# Altium schematic symbol library 3Delight.SCHLIB: 190 symbols (part 1 of 2)
Pins are listed as number, name and electrical type; pins without a type are passive.

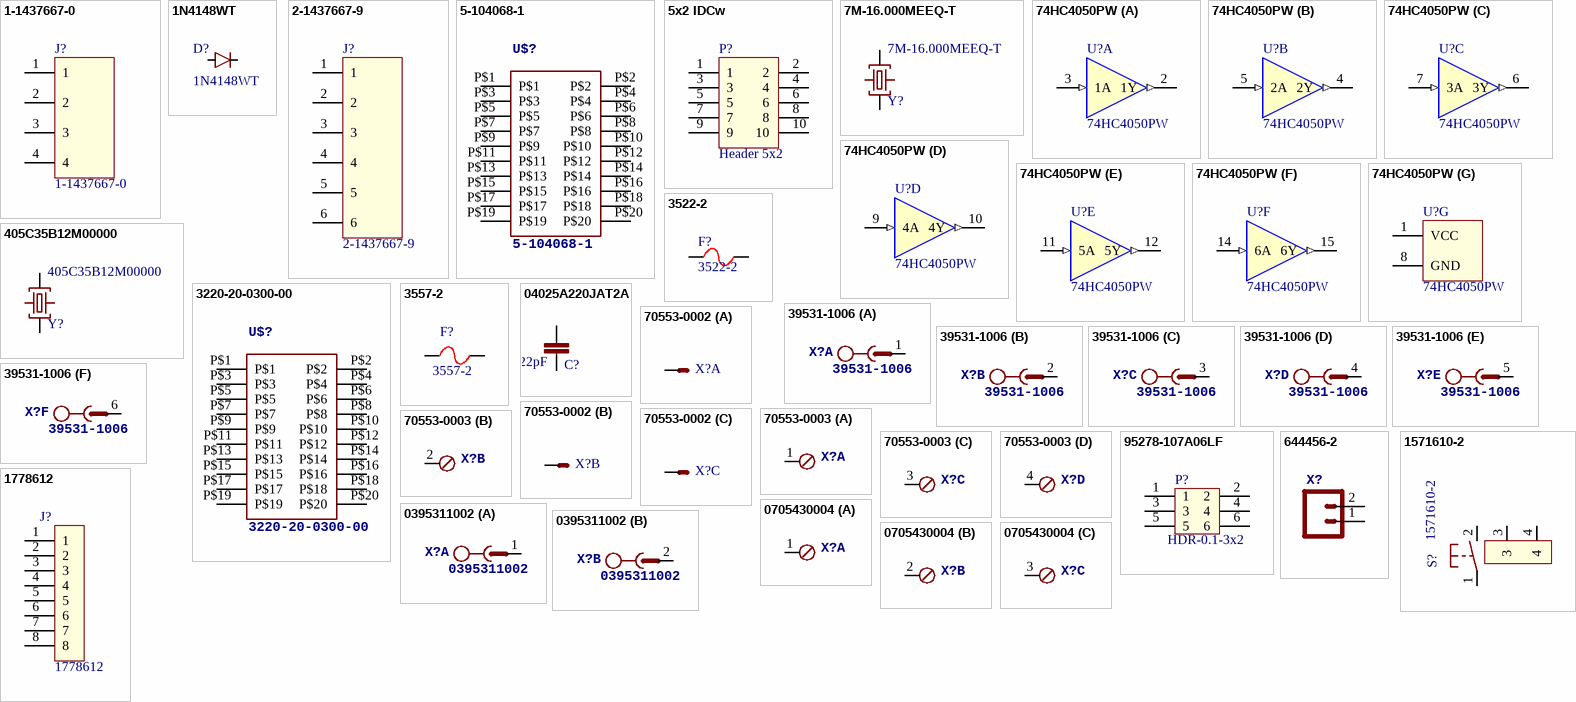
[diagram p0: symbols 1-1437667-0 to 0705430004]

## 1-1437667-0
designator J?
footprint CON-Barrier-4-8.26mm
pins: 1, 2, 3, 4

## 1N4148WT
designator D?
DIODE SOD523; LastRevisionNote: ImportComponents; Published: 23-Apr-2014; Publisher: UltiMachine; LastRevisionDate: 23-Apr-2014; Value: 1N4148WT
footprint SOD523
pins: A, C

## 2-1437667-9
designator J?
footprint CON-Barrier-6-8.26mm
pins: 1, 2, 3, 4, 5, 6

## 5-104068-1
designator U$?
HDR 20pos Vert Dual Row; ManufacturerPartNumber: RSB39VTE-17; LastRevisionNote: ImportComponents; Published: 23-Apr-2014; Publisher: UltiMachine; LastRevisionDate: 23-Apr-2014
footprint 10X2-0.05X0.1
pins: P$1, P$2, P$3, P$4, P$5, P$6, P$7, P$8, P$9, P$10, P$11, P$12, P$13, P$14, P$15, P$16, P$17, P$18, P$19, P$20

## 5x2 IDCw
designator P?, comment Header 5x2
footprint 2x5 IDCw
pins: 1, 2, 3, 4, 5, 6, 7, 8, 9, 10

## 7M-16.000MEEQ-T
designator Y?
Crystal 16mHz 10ppm 10pF; LastRevisionNote: ImportComponents; Published: 23-Apr-2014; Publisher: UltiMachine; LastRevisionDate: 23-Apr-2014; ManufacturerPartNumber: 7M-16.000MEEQ-T
footprint CRYS320250
pins: 1 C1, 2 GND, 3 C2, 4 GND

## 74HC4050PW
designator U?
footprint TSSOP16 (TSOP, 16-Leads, Body 5.00x4.40mm, Pitch 0.65mm, IPC Medium Density)
part A pins: 2 1Y (out), 3 1A (in)
part B pins: 4 2Y (out), 5 2A (in)
part C pins: 6 3Y (out), 7 3A (in)
part D pins: 9 4A (in), 10 4Y (out)
part E pins: 11 5A (in), 12 5Y (out)
part F pins: 14 6A (in), 15 6Y (out)
part G pins: 1 VCC (power), 8 GND (power)

## 405C35B12M00000
designator Y?
Crystal 12MHz ±30ppm (Tol) ±50ppm (Stability) 13pF FUND 50Ohm; LastRevisionNote: ImportComponents; Published: 23-Apr-2014; Publisher: UltiMachine; LastRevisionDate: 23-Apr-2014; ManufacturerPartNumber: 405C35B12M00000
footprint CRYS320500
pins: 1 C1, 2 GND, 3 C2, 4 GND

## 3220-20-0300-00
designator U$?
HDR 20pos Vert Dual Row SMT; ManufacturerPartNumber: RSB39VTE-17; LastRevisionNote: ImportComponents; Published: 23-Apr-2014; Publisher: UltiMachine; LastRevisionDate: 23-Apr-2014
footprint 3220-20-030-00
pins: P$1, P$2, P$3, P$4, P$5, P$6, P$7, P$8, P$9, P$10, P$11, P$12, P$13, P$14, P$15, P$16, P$17, P$18, P$19, P$20

## 3522-2
designator F?
FUSE PTH ATO; LastRevisionNote: ImportComponents; Published: 23-Apr-2014; Publisher: UltiMachine; LastRevisionDate: 23-Apr-2014; ManufacturerPartNumber: 3522-2
footprint 3522-2
pins: 1, 2

## 3557-2
designator F?
FUSE PTH ATO; LastRevisionNote: ImportComponents; Published: 23-Apr-2014; Publisher: UltiMachine; LastRevisionDate: 23-Apr-2014; ManufacturerPartNumber: 3557-2
footprint 3557
pins: 1, 2

## 04025A220JAT2A
designator C?, comment 22pF
CAP CER 0402 22pF 50V 5% C0G; ManufacturerPartNumber: 04025A220JAT2A; LastRevisionNote: ImportComponents; Published: 23-Apr-2014; Publisher: UltiMachine; LastRevisionDate: 23-Apr-2014; VALUE: 22pF
signal-integrity model Model Name (Model Description)
simulation model Model Name (Model Description)
footprint C0402
pins: 1, 2

## 39531-1006
designator X?
Conn - 5.08mm Pitch Fixed; LastRevisionNote: ImportComponents; Published: 23-Apr-2014; Publisher: UltiMachine; LastRevisionDate: 23-Apr-2014; Value: 39531-1006
footprint MSTBV6
part A pins: 1
part B pins: 2 1
part C pins: 3 1
part D pins: 4 1
part E pins: 5 1
part F pins: 6 1

## 70553-0002
designator X?
Connector 3pos 2.54mm locking; LastRevisionNote: ImportComponents; Published: 23-Apr-2014; Publisher: UltiMachine; LastRevisionDate: 23-Apr-2014
footprint 3POL2.54-RtAngle
part A pins: 1 S
part B pins: 2 S
part C pins: 3 S

## 70553-0003
designator X?
4pos latching 2.54mm; LastRevisionNote: ImportComponents; Published: 23-Apr-2014; Publisher: UltiMachine; LastRevisionDate: 23-Apr-2014
footprint 4POL254-RtAngle
part A pins: 1
part B pins: 2 1
part C pins: 3 1
part D pins: 4 1

## 95278-107A06LF
designator P?, comment HDR-0.1-3x2
pins: 1 (power), 2 (power), 3 (power), 4 (power), 5 (power), 6 (power)

## 644456-2
designator X?
Connector 2x1 2.54mm PTH; LastRevisionNote: ImportComponents; Published: 23-Apr-2014; Publisher: UltiMachine; LastRevisionDate: 23-Apr-2014
footprint 644456-2
pins: 1, 2

## 1571610-2
designator S?
SWTCH Momentary Washable; Manufacturer: Omron; Manufacturer: TE; LastRevisionNote: Import; ComponentLink1URL: http://www.te.com/commerce/DocumentDelivery/DDEController?Action=srchrtrv&DocNm=1571610&DocType=Customer+Drawing&DocLang=English; ComponentLink1Description: Datasheet for B3F-31XX; Published: 23-Apr-2014; Publisher: UltiMachine; LastRevisionDate: 23-Apr-2014; ManufacturerPartNumber: 1571610-2; Supplier 1: Mouser; Supplier Part Number 1: 506-1571610-2
footprint B3F-31XX
pins: 1 P, 2 S, 3 (power), 4 (power)

## 1778612
designator J?
Conn 2.5mm Pin in Paste Phoenix
footprint 1778612 (Connector 8 pin 2.5mm Pin in Paste)
pins: 1, 2, 3, 4, 5, 6, 7, 8

## 0395311002
designator X?
Conn - 5.08mm Pitch Fixed; LastRevisionNote: ImportComponents; Published: 23-Apr-2014; Publisher: UltiMachine; LastRevisionDate: 23-Apr-2014; Value: 0395311002
footprint MSTBV2
part A pins: 1
part B pins: 2 1

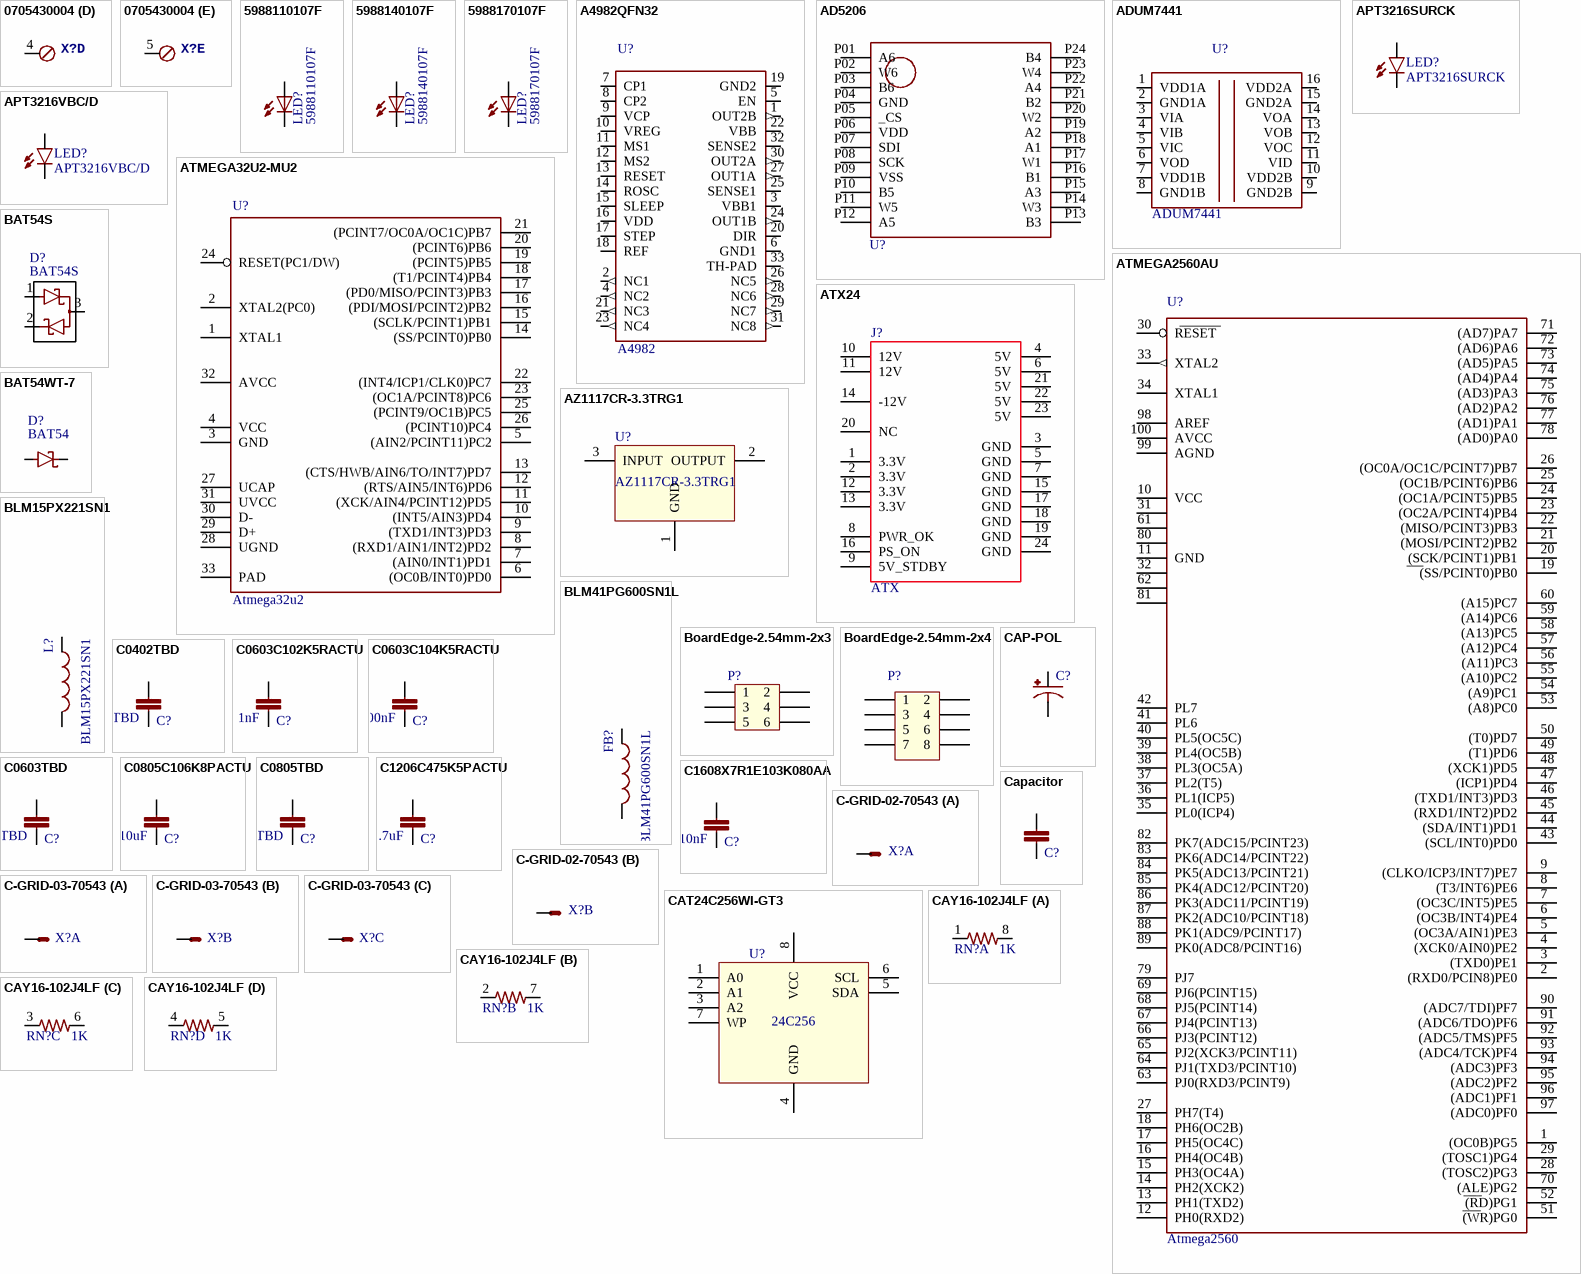
[diagram p1: symbols 0705430004 to CAY16-102J4LF]

## 0705430004
designator X?
5pos Latching 2.54mm; ManufacturerPartNumber: 0705430004; LastRevisionNote: ImportComponents; Published: 23-Apr-2014; Publisher: UltiMachine; LastRevisionDate: 23-Apr-2014
footprint 5POL254
part A pins: 1
part B pins: 2 1
part C pins: 3 1
part D pins: 4 1
part E pins: 5 1

## 5988110107F
designator LED?
LED 0805 Red; LastRevisionNote: ImportComponents; Published: 23-Apr-2014; Publisher: UltiMachine; LastRevisionDate: 23-Apr-2014; VALUE: 5988110107F
footprint LED2012120
pins: A, C

## 5988140107F
designator LED?
LED 0805 Yellow; LastRevisionNote: ImportComponents; Published: 23-Apr-2014; Publisher: UltiMachine; LastRevisionDate: 23-Apr-2014; VALUE: 5988140107F
footprint LED2012120
pins: A, C

## 5988170107F
designator LED?
LED 0805 Green; LastRevisionNote: ImportComponents; Published: 23-Apr-2014; Publisher: UltiMachine; LastRevisionDate: 23-Apr-2014; VALUE: 5988170107F
footprint LED2012120
pins: A, C

## A4982QFN32
designator U?, comment A4982
Stepper Driver - Fully Integrated, Control and Power Stage; Manufacturer: Allegro; ManufacturerPartNumber: A4982SETTR-T; LastRevisionNote: ImportComponents; Published: 23-Apr-2014; Publisher: UltiMachine; LastRevisionDate: 23-Apr-2014; ComponentLink1Description: Datasheet for A4982; ComponentLink1URL: http://www.allegromicro.com/en/Products/Part_Numbers/4982/4982.pdf; Supplier 1: Digi-Key; Supplier Part Number 1: 620-1340-2-ND
footprint QFN32_050050
pins: 1 OUT2B (out), 2 NC1 (out), 3 VBB1 (power), 4 NC2 (out), 5 EN, 6 GND1 (power), 7 CP1, 8 CP2, 9 VCP, 10 VREG, 11 MS1, 12 MS2, 13 RESET, 14 ROSC, 15 SLEEP, 16 VDD (power), 17 STEP, 18 REF, 19 GND2 (power), 20 DIR, 21 NC3 (out), 22 VBB (power), 23 NC4 (out), 24 OUT1B (out), 25 SENSE1, 26 NC5 (out), 27 OUT1A (out), 28 NC6 (out), 29 NC7 (out), 30 OUT2A (out), 31 NC8 (out), 32 SENSE2, 33 TH-PAD (power)

## AD5206
designator U?  (value not drawn)
6ch Digipot; Manufacturer: Analog Devices; ManufacturerPartNumber: AD5206BRUZ10-RL7; LastRevisionNote: ImportComponents; Published: 23-Apr-2014; Publisher: UltiMachine; LastRevisionDate: 23-Apr-2014; ComponentLink1Description: Datasheet for AD5206; ComponentLink1URL: http://www.analog.com/static/imported-files/data_sheets/AD5204_5206.pdf
footprint TSSOP24
pins: P01 A6, P02 W6, P03 B6, P04 GND, P05 _CS, P06 VDD, P07 SDI, P08 SCK, P09 VSS, P10 B5, P11 W5, P12 A5, P13 B3, P14 W3, P15 A3, P16 B1, P17 W1, P18 A1, P19 A2, P20 W2, P21 B2, P22 A4, P23 W4, P24 B4

## ADUM7441
designator U?
4ch iCoupler; LastRevisionNote: ImportComponents; Published: 23-Apr-2014; Publisher: UltiMachine; LastRevisionDate: 23-Apr-2014
footprint QSOP16
pins: 1 VDD1A, 2 GND1A, 3 VIA, 4 VIB, 5 VIC, 6 VOD, 7 VDD1B, 8 GND1B, 9 GND2B, 10 VDD2B, 11 VID, 12 VOC, 13 VOB, 14 VOA, 15 GND2A, 16 VDD2A

## APT3216SURCK
designator LED?
LED RED CLEAR 1206 SMD; LastRevisionNote: ImportComponents; Published: 23-Apr-2014; Publisher: UltiMachine; LastRevisionDate: 23-Apr-2014; VALUE: APT3216SURCK
footprint LED1206
pins: A, C

## APT3216VBC/D
designator LED?
LED BLUE CLEAR 1206 SMD; LastRevisionNote: ImportComponents; Published: 23-Apr-2014; Publisher: UltiMachine; LastRevisionDate: 23-Apr-2014; VALUE: APT3216VBC/D
footprint LED1206
pins: A, C

## ATMEGA32U2-MU2
designator U?, comment Atmega32u2
LastRevisionNote: ImportComponents; Published: 23-Apr-2014; Publisher: UltiMachine; LastRevisionDate: 23-Apr-2014; Supplier 1: Digi-Key; Supplier Part Number 1: ATMEGA32U2-MURTR-ND
footprint QFN32_050050
pins: 1 XTAL1, 2 XTAL2(PC0), 3 GND (power), 4 VCC (power), 5 (AIN2/PCINT11)PC2, 6 (OC0B/INT0)PD0, 7 (AIN0/INT1)PD1, 8 (RXD1/AIN1/INT2)PD2, 9 (TXD1/INT3)PD3, 10 (INT5/AIN3)PD4, 11 (XCK/AIN4/PCINT12)PD5, 12 (RTS/AIN5/INT6)PD6, 13 (CTS/HWB/AIN6/TO/INT7)PD7, 14 (SS/PCINT0)PB0, 15 (SCLK/PCINT1)PB1, 16 (PDI/MOSI/PCINT2)PB2, 17 (PD0/MISO/PCINT3)PB3, 18 (T1/PCINT4)PB4, 19 (PCINT5)PB5, 20 (PCINT6)PB6, 21 (PCINT7/OC0A/OC1C)PB7, 22 (INT4/ICP1/CLK0)PC7, 23 (OC1A/PCINT8)PC6, 24 RESET(PC1/DW), 25 (PCINT9/OC1B)PC5, 26 (PCINT10)PC4, 27 UCAP, 28 UGND (power), 29 D+, 30 D-, 31 UVCC (power), 32 AVCC (power), 33 PAD (power)

## ATMEGA2560AU
designator U?, comment Atmega2560
LastRevisionNote: ImportComponents; Published: 23-Apr-2014; Publisher: UltiMachine; LastRevisionDate: 23-Apr-2014; Supplier 1: Digi-Key; Supplier Part Number 1: ATMEGA2560-16AURTR-ND
footprint TQFP100_140140_012
pins: 1 (OC0B)PG5, 2 (RXD0/PCIN8)PE0, 3 (TXD0)PE1, 4 (XCK0/AIN0)PE2, 5 (OC3A/AIN1)PE3, 6 (OC3B/INT4)PE4, 7 (OC3C/INT5)PE5, 8 (T3/INT6)PE6, 9 (CLKO/ICP3/INT7)PE7, 10 VCC (power), 11 GND (power), 12 PH0(RXD2), 13 PH1(TXD2), 14 PH2(XCK2), 15 PH3(OC4A), 16 PH4(OC4B), 17 PH5(OC4C), 18 PH6(OC2B), 19 (SS/PCINT0)PB0, 20 (SCK/PCINT1)PB1, 21 (MOSI/PCINT2)PB2, 22 (MISO/PCINT3)PB3, 23 (OC2A/PCINT4)PB4, 24 (OC1A/PCINT5)PB5, 25 (OC1B/PCINT6)PB6, 26 (OC0A/OC1C/PCINT7)PB7, 27 PH7(T4), 28 (TOSC2)PG3, 29 (TOSC1)PG4, 30 RESET, 31 VCC1 (power), 32 GND1 (power), 33 XTAL2 (out), 34 XTAL1, 35 PL0(ICP4), 36 PL1(ICP5), 37 PL2(T5), 38 PL3(OC5A), 39 PL4(OC5B), 40 PL5(OC5C), 41 PL6, 42 PL7, 43 (SCL/INT0)PD0, 44 (SDA/INT1)PD1, 45 (RXD1/INT2)PD2, 46 (TXD1/INT3)PD3, 47 (ICP1)PD4, 48 (XCK1)PD5, 49 (T1)PD6, 50 (T0)PD7, 51 (WR)PG0, 52 (RD)PG1, 53 (A8)PC0, 54 (A9)PC1, 55 (A10)PC2, 56 (A11)PC3, 57 (A12)PC4, 58 (A13)PC5, 59 (A14)PC6, 60 (A15)PC7, 61 VCC2 (power), 62 GND2 (power), 63 PJ0(RXD3/PCINT9), 64 PJ1(TXD3/PCINT10), 65 PJ2(XCK3/PCINT11), 66 PJ3(PCINT12), 67 PJ4(PCINT13), 68 PJ5(PCINT14), 69 PJ6(PCINT15), 70 (ALE)PG2, 71 (AD7)PA7, 72 (AD6)PA6, 73 (AD5)PA5, 74 (AD4)PA4, 75 (AD3)PA3, 76 (AD2)PA2, 77 (AD1)PA1, 78 (AD0)PA0, 79 PJ7, 80 VCC3 (power), 81 GND3 (power), 82 PK7(ADC15/PCINT23), 83 PK6(ADC14/PCINT22), 84 PK5(ADC13/PCINT21), 85 PK4(ADC12/PCINT20), 86 PK3(ADC11/PCINT19), 87 PK2(ADC10/PCINT18), 88 PK1(ADC9/PCINT17), 89 PK0(ADC8/PCINT16), 90 (ADC7/TDI)PF7, 91 (ADC6/TDO)PF6, 92 (ADC5/TMS)PF5, 93 (ADC4/TCK)PF4, 94 (ADC3)PF3, 95 (ADC2)PF2, 96 (ADC1)PF1, 97 (ADC0)PF0, 98 AREF, 99 AGND (power), 100 AVCC (power)

## ATX24
designator J?, comment ATX
footprint LTST-C19HE1WT (LED RGB DIFFUSED 0606 SMD)
pins: 1 3.3V (power), 2 3.3V (power), 3 GND (power), 4 5V (power), 5 GND (power), 6 5V (power), 7 GND (power), 8 PWR_OK (power), 9 5V_STDBY (power), 10 12V (power), 11 12V (power), 12 3.3V (power), 13 3.3V (power), 14 -12V (power), 15 GND (power), 16 PS_ON (power), 17 GND (power), 18 GND (power), 19 GND (power), 20 NC (power), 21 5V (power), 22 5V (power), 23 5V (power), 24 GND (power)

## AZ1117CR-3.3TRG1
designator U?
IC REG LDO 3.3V 0.8A SOT89
footprint SOT89-150P347X160-3L (SOT89, 3-Leads, Body 4.50x2.48mm, Pitch 1.50mm, Lead Span 3.5mm, IPC High Density)
pins: 1 GND (power), 2 OUTPUT (power), 3 INPUT (power)

## BAT54S
designator D?
DIODE SCHOTTKY SOT323; Manufacturer: Fairchild; ManufacturerPartNumber: BAT54SWT1G; LastRevisionNote: ImportComponents; Published: 23-Apr-2014; Publisher: UltiMachine; LastRevisionDate: 23-Apr-2014; Value: BAT54S
footprint SOT323
pins: 1, 2, 3

## BAT54WT-7
designator D?, comment BAT54
Diode Schottky 30V 100mA Surface Mount SOD-523; Manufacturer: Diodes Incorporated; ManufacturerPartNumber: BAT54WT-7; LastRevisionNote: ImportComponents; Published: 23-Apr-2014; Publisher: UltiMachine; LastRevisionDate: 23-Apr-2014; Value: BAT54
footprint SOD523_
pins: A, K

## BLM15PX221SN1
designator L?
FERRITE BEAD 220 OHM 0402; ManufacturerPartNumber: BLM41PG600SN1L; LastRevisionNote: ImportComponents; Published: 23-Apr-2014; Publisher: UltiMachine; LastRevisionDate: 23-Apr-2014
footprint C0402
pins: 1, 2

## BLM41PG600SN1L
designator FB?
FERRITE BEAD 1806 60ohm; LastRevisionNote: ImportComponents; Published: 23-Apr-2014; Publisher: UltiMachine; LastRevisionDate: 23-Apr-2014; ManufacturerPartNumber: BLM41PG600SN1L
footprint L1806 (Chip Inductor, 2-Leads, Body 4.50x1.60mm, IPC Medium Density)
pins: 1, 2

## BoardEdge-2.54mm-2x3
designator P?  (value not drawn)
footprint BoardEdge-2.54mm-2x3
pins: 1 (power), 2 (power), 3 (power), 4 (power), 5 (power), 6 (power)

## BoardEdge-2.54mm-2x4
designator P?  (value not drawn)
footprint BoardEdge-2.54mm-2x4
pins: 1 (power), 2 (power), 3 (power), 4 (power), 5 (power), 6 (power), 7 (power), 8 (power)

## C0402TBD
designator C?
Capacitor Non Polarized; LastRevisionNote: ImportComponents; Published: 23-Apr-2014; Publisher: UltiMachine; LastRevisionDate: 23-Apr-2014; VALUE: C0402TBD
footprint C0402
signal-integrity model Model Name (Model Description)
simulation model Model Name (Model Description)
pins: 1, 2

## C0603C102K5RACTU
designator C?, comment 1nF
CAP CER 0603  1nF 50v 10% X7R; ManufacturerPartNumber: C0603C102K5RACTU; LastRevisionNote: ImportComponents; Published: 23-Apr-2014; Publisher: UltiMachine; LastRevisionDate: 23-Apr-2014; VALUE: 1nF
footprint C0603
signal-integrity model Model Name (Model Description)
simulation model Model Name (Model Description)
pins: 1, 2

## C0603C104K5RACTU
designator C?, comment 100nF
CAP CER 0603 100nF 50V 10% X7R; ManufacturerPartNumber: C0603C104K5RACTU; LastRevisionNote: ImportComponents; Published: 23-Apr-2014; Publisher: UltiMachine; LastRevisionDate: 23-Apr-2014; VALUE: 100nF
footprint C0603
signal-integrity model Model Name (Model Description)
simulation model Model Name (Model Description)
pins: 1, 2

## C0603TBD
designator C?
Capacitor Non Polarized; LastRevisionNote: ImportComponents; Published: 23-Apr-2014; Publisher: UltiMachine; LastRevisionDate: 23-Apr-2014; VALUE: C0603TBD
footprint C0603
signal-integrity model Model Name (Model Description)
simulation model Model Name (Model Description)
pins: 1, 2

## C0805C106K8PACTU
designator C?, comment 10uF
CAP CER 0805 10uF 10V 10% X5R; ManufacturerPartNumber: C0805C106K8PACTU; LastRevisionNote: ImportComponents; Published: 23-Apr-2014; Publisher: UltiMachine; LastRevisionDate: 23-Apr-2014; VALUE: 10uF
footprint C0805
signal-integrity model Model Name (Model Description)
simulation model Model Name (Model Description)
pins: 1, 2

## C0805TBD
designator C?
Capacitor Non Polarized; LastRevisionNote: ImportComponents; Published: 23-Apr-2014; Publisher: UltiMachine; LastRevisionDate: 23-Apr-2014; VALUE: C0805TBD
footprint C0805
signal-integrity model Model Name (Model Description)
simulation model Model Name (Model Description)
pins: 1, 2

## C1206C475K5PACTU
designator C?, comment 4.7uF
CAP CER 1206 4.7uF 50V 10% X5R; ManufacturerPartNumber: C1206C475K5PACTU; LastRevisionNote: ImportComponents; Published: 23-Apr-2014; Publisher: UltiMachine; LastRevisionDate: 23-Apr-2014; VALUE: 4.7uF
signal-integrity model Model Name (Model Description)
simulation model Model Name (Model Description)
footprint C1206
pins: 1, 2

## C1608X7R1E103K080AA
designator C?, comment 10nF
CAP CER 0603 10nF 25V 10% X7R; ManufacturerPartNumber: C1608X7R1E103K080AA; LastRevisionNote: ImportComponents; Published: 23-Apr-2014; Publisher: UltiMachine; LastRevisionDate: 23-Apr-2014; VALUE: 10nF
footprint C0603
signal-integrity model Model Name (Model Description)
simulation model Model Name (Model Description)
pins: 1, 2

## C-GRID-02-70543
designator X?
Connector 2pos; LastRevisionNote: ImportComponents; Published: 23-Apr-2014; Publisher: UltiMachine; LastRevisionDate: 23-Apr-2014
footprint 70543-02
part A pins: 1 S
part B pins: 2 S

## C-GRID-03-70543
designator X?
Connector 2pos 2.54mm locking; LastRevisionNote: ImportComponents; Published: 23-Apr-2014; Publisher: UltiMachine; LastRevisionDate: 23-Apr-2014
footprint 70543-03
part A pins: 1 S
part B pins: 2 S
part C pins: 3 S

## CAP-POL
designator C?
Capacitor Polarized; LastRevisionNote: ImportComponents; Published: 23-Apr-2014; Publisher: UltiMachine; LastRevisionDate: 23-Apr-2014
footprint E3,5-8 (Footprint not found)
footprint C1206Tantalum (Chip Capacitor, 2-Leads, Body 3.20x1.60mm, IPC Medium Density)
footprint C12,5-5
pins: 1 +, 2 -

## Capacitor
designator C?
Capacitor Non Polarized; LastRevisionNote: ImportComponents; Published: 23-Apr-2014; Publisher: UltiMachine; LastRevisionDate: 23-Apr-2014
footprint C0402
footprint C0603
footprint C0805
footprint C1210K
signal-integrity model Model Name (Model Description)
simulation model Model Name (Model Description)
footprint C2220K
footprint C1206
pins: 1, 2

## CAT24C256WI-GT3
designator U?, comment 24C256
footprint SO8 (plastic small outline package; 8 leads; body width 3.9 mm)
pins: 1 A0 (power), 2 A1 (power), 3 A2 (power), 4 GND (power), 5 SDA (power), 6 SCL (power), 7 WP (power), 8 VCC (power)

## CAY16-102J4LF
designator RN?, comment 1K
RES ARRAY 4 RES 1K 1206 62.5mW 5%; Manufacturer: Bourns; ManufacturerPartNumber: CAY16-102J4LF; LastRevisionNote: ImportComponents; ComponentLink1URL: http://www.bourns.com/data/global/pdfs/CATCAY.pdf; ComponentLink1Description: Datasheet for CAY16; Published: 23-Apr-2014; Publisher: UltiMachine; LastRevisionDate: 23-Apr-2014; VALUE: 1K
footprint CAY16
part A pins: 1, 8 2
part B pins: 2 1, 7 2
part C pins: 3 1, 6 2
part D pins: 4 1, 5 2

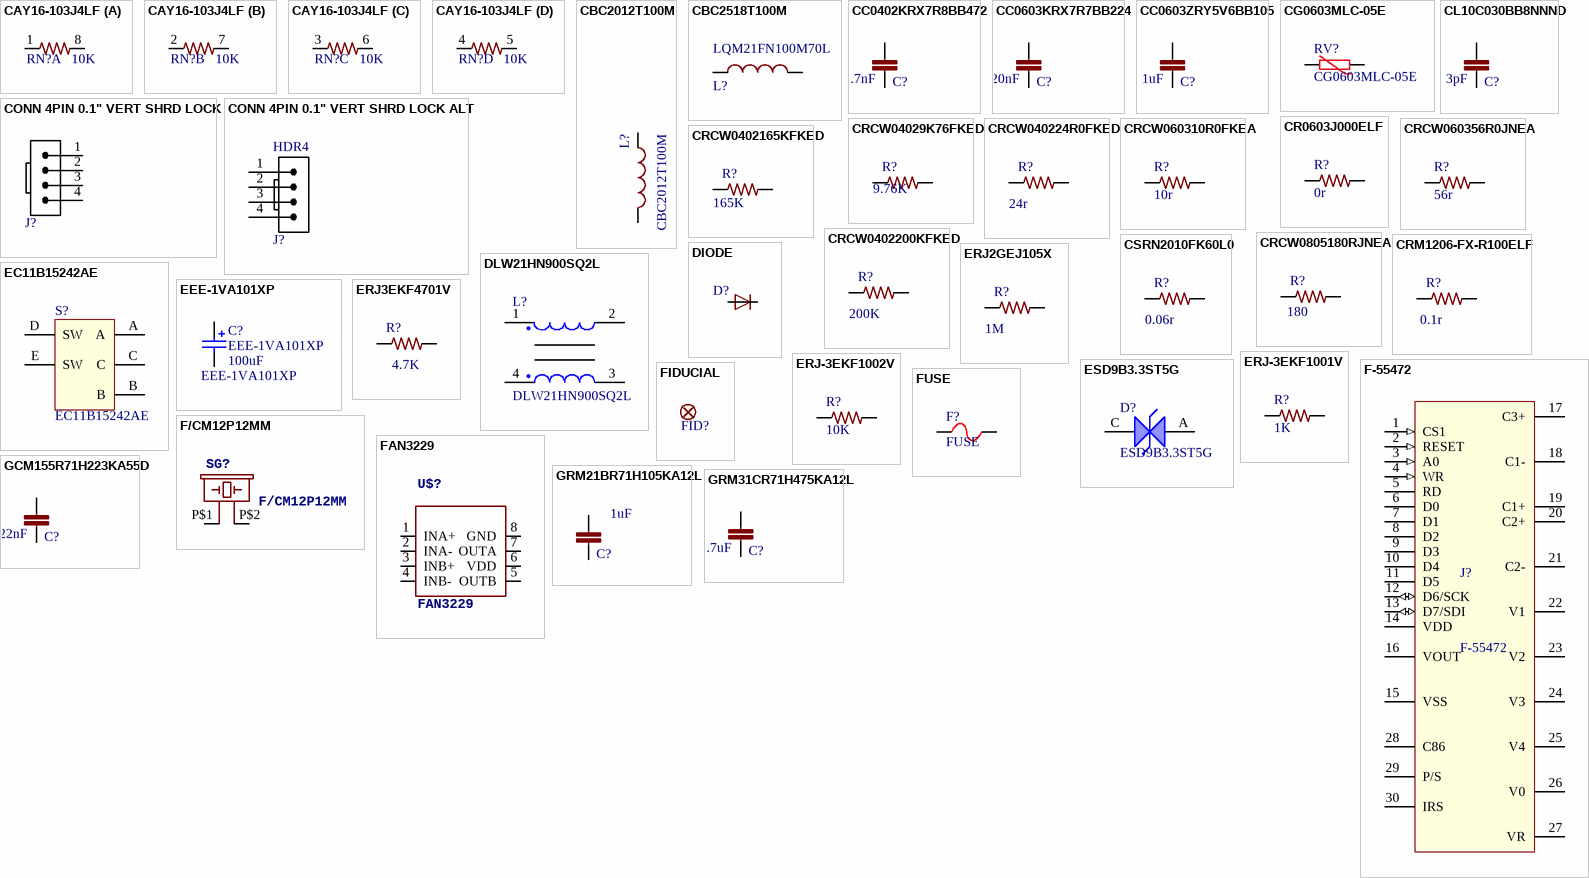
[diagram p2: symbols CAY16-103J4LF to GRM31CR71H475KA12L]

## CAY16-103J4LF
designator RN?, comment 10K
RES ARRAY 4 RES 10K 1206 62.5mW 5%; Manufacturer: Bourns; ManufacturerPartNumber: CAY16-103J4LF; LastRevisionNote: ImportComponents; ComponentLink1URL: http://www.bourns.com/data/global/pdfs/CATCAY.pdf; ComponentLink1Description: Datasheet for CAY16; Published: 23-Apr-2014; Publisher: UltiMachine; LastRevisionDate: 23-Apr-2014; VALUE: 10K
footprint CAY16
part A pins: 1, 8 2
part B pins: 2 1, 7 2
part C pins: 3 1, 6 2
part D pins: 4 1, 5 2

## CBC2012T100M
designator L?
IND 0805 10uH 240mA 20%; LastRevisionNote: ImportComponents; Published: 23-Apr-2014; Publisher: UltiMachine; LastRevisionDate: 23-Apr-2014; ManufacturerPartNumber: CBC2012T100M; Value: CBC2012T100M
footprint C0805
pins: 1, 2

## CBC2518T100M
designator L?, comment LQM21FN100M70L
IND 10UH 680MA 468 MOHM ±20%; ManufacturerPartNumber: CBC2012T100M; LastRevisionNote: ImportComponents; Published: 23-Apr-2014; Publisher: UltiMachine; LastRevisionDate: 23-Apr-2014; Value: LQM21FN100M70L
footprint C0805
pins: 1, 2

## CC0402KRX7R8BB472
designator C?, comment 4.7nF
CAP CER 0402 4.7nF 25V 10% X7R; ManufacturerPartNumber: CC0402KRX7R8BB472; LastRevisionNote: ImportComponents; Published: 23-Apr-2014; Publisher: UltiMachine; LastRevisionDate: 23-Apr-2014; VALUE: 4.7nF
footprint C0402
signal-integrity model Model Name (Model Description)
simulation model Model Name (Model Description)
pins: 1, 2

## CC0603KRX7R7BB224
designator C?, comment 220nF
CAP CER 0603 220nF 10V 10% X7R; ManufacturerPartNumber: CC0603KRX7R7BB224; LastRevisionNote: ImportComponents; Published: 23-Apr-2014; Publisher: UltiMachine; LastRevisionDate: 23-Apr-2014; VALUE: 220nF
footprint C0603
signal-integrity model Model Name (Model Description)
simulation model Model Name (Model Description)
pins: 1, 2

## CC0603ZRY5V6BB105
designator C?, comment 1uF
CAP CER 0603 1uF 10V Y5V; ManufacturerPartNumber: CC0603ZRY5V6BB105; LastRevisionNote: ImportComponents; Published: 23-Apr-2014; Publisher: UltiMachine; LastRevisionDate: 23-Apr-2014; VALUE: 1uF
footprint C0603
signal-integrity model Model Name (Model Description)
simulation model Model Name (Model Description)
pins: 1, 2

## CG0603MLC-05E
designator RV?
VAR 0603 5V; LastRevisionNote: ImportComponents; Published: 23-Apr-2014; Publisher: UltiMachine; LastRevisionDate: 23-Apr-2014; ManufacturerPartNumber: CG0603MLC-05E
footprint R0603
signal-integrity model Model Name (Model Description)
simulation model Model Name (Model Description)
pins: 1, 2

## CL10C030BB8NNND
designator C?, comment 3pF
CAP CER 3PF 50V NP0 0603; ManufacturerPartNumber: CL10C030BB8NNND; LastRevisionNote: ImportComponents; Published: 23-Apr-2014; Publisher: UltiMachine; LastRevisionDate: 23-Apr-2014; VALUE: 3pF
footprint C0603
signal-integrity model Model Name (Model Description)
simulation model Model Name (Model Description)
pins: 1, 2

## CONN 4PIN 0.1" VERT SHRD LOCK
designator J?, comment Molex 0705430003  (value not drawn)
Molex 4 Pin Clip Connector; MANUFACTURER #: 0705430038; PART: 4 Pin Conn; PART DESCRIPTION: 4 Positions Header, Shrouded Connector 0.100" (2.54mm) Through Hole Tin; TOLERANCE: -NA-; VALUE: HDR4; MANUFACTURER: Molex; DISTRIBUTOR #: WM4826-ND; DISTRIBUTOR: Digikey; EE_SPEC: -NA-
footprint 4POL254
pins: 1, 2, 3, 4

## CONN 4PIN 0.1" VERT SHRD LOCK ALT
designator J?, comment value HDR4  (hidden comment: Molex 0705430003)
Molex 4 Pin Clip Connector; MANUFACTURER #: 0705430038; PART: 4 Pin Conn; PART DESCRIPTION: 4 Positions Header, Shrouded Connector 0.100" (2.54mm) Through Hole Tin; TOLERANCE: -NA-; MANUFACTURER: Molex; DISTRIBUTOR #: WM4826-ND; DISTRIBUTOR: Digikey; EE_SPEC: -NA-
footprint 4POL254
pins: 1, 2, 3, 4

## CR0603J000ELF
designator R?, comment 0r
RES 0603 0r 100mW 1%; ManufacturerPartNumber: CR0603J000ELF; LastRevisionNote: ImportComponents; Published: 23-Apr-2014; Publisher: UltiMachine; LastRevisionDate: 23-Apr-2014; VALUE: 0r
footprint R0603
signal-integrity model Model Name (Model Description)
simulation model Model Name (Model Description)
pins: 1, 2

## CRCW04029K76FKED
designator R?, comment 9.76K
RES 0402 9.76K 63mW 1%; ManufacturerPartNumber: CRCW04029K76FKED; LastRevisionNote: ImportComponents; Published: 23-Apr-2014; Publisher: UltiMachine; LastRevisionDate: 23-Apr-2014; VALUE: 9.76K
footprint R0402
signal-integrity model Model Name (Model Description)
simulation model Model Name (Model Description)
pins: 1, 2

## CRCW040224R0FKED
designator R?, comment 24r
Res Thick Film 0402 24 Ohm 1% 0.063W; ManufacturerPartNumber: CRCW0402200KFKED; LastRevisionNote: ImportComponents; Published: 23-Apr-2014; Publisher: UltiMachine; LastRevisionDate: 23-Apr-2014; VALUE: 24r
footprint R0402
signal-integrity model Model Name (Model Description)
simulation model Model Name (Model Description)
pins: 1, 2

## CRCW060310R0FKEA
designator R?, comment 10r
RES 0603 10r 100mW 1%; ManufacturerPartNumber: CRCW060310R0FKEA; LastRevisionNote: ImportComponents; Published: 23-Apr-2014; Publisher: UltiMachine; LastRevisionDate: 23-Apr-2014; VALUE: 10r
footprint R0603
signal-integrity model Model Name (Model Description)
simulation model Model Name (Model Description)
pins: 1, 2

## CRCW060356R0JNEA
designator R?, comment 56r
RES 0603 56r 100mW 5%; ManufacturerPartNumber: CRCW060356R0JNEA; LastRevisionNote: ImportComponents; Published: 23-Apr-2014; Publisher: UltiMachine; LastRevisionDate: 23-Apr-2014; VALUE: 56r
footprint R0603
signal-integrity model Model Name (Model Description)
simulation model Model Name (Model Description)
pins: 1, 2

## CRCW0402165KFKED
designator R?, comment 165K
RES 165K OHM 1% 1/16W 0402; LastRevisionNote: ImportComponents; Published: 23-Apr-2014; Publisher: UltiMachine; LastRevisionDate: 23-Apr-2014; VALUE: 165K
footprint R0402
signal-integrity model Model Name (Model Description)
simulation model Model Name (Model Description)
pins: 1, 2

## CRCW0402200KFKED
designator R?, comment 200K
RES 0402 200K; ManufacturerPartNumber: CRCW0402200KFKED; LastRevisionNote: ImportComponents; Published: 23-Apr-2014; Publisher: UltiMachine; LastRevisionDate: 23-Apr-2014; VALUE: 200K
footprint R0402
signal-integrity model Model Name (Model Description)
simulation model Model Name (Model Description)
pins: 1, 2

## CRCW0805180RJNEA
designator R?, comment 180
Resistor; LastRevisionNote: ImportComponents; Published: 23-Apr-2014; Publisher: UltiMachine; LastRevisionDate: 23-Apr-2014; VALUE: 180
signal-integrity model Model Name (Model Description)
simulation model Model Name (Model Description)
footprint R0805
pins: 1, 2

## CRM1206-FX-R100ELF
designator R?, comment 0.1r
RES 1206 0.1r 0.5w 1%; ManufacturerPartNumber: CRM1206-FX-R100ELF; LastRevisionNote: ImportComponents; Published: 23-Apr-2014; Publisher: UltiMachine; LastRevisionDate: 23-Apr-2014; VALUE: 0.1r
footprint R1206
signal-integrity model Model Name (Model Description)
simulation model Model Name (Model Description)
pins: 1, 2

## CSRN2010FK60L0
designator R?, comment 0.06r
RES 2010 0.06r 1W 1%; ManufacturerPartNumber: CSRN2010FK60L0; LastRevisionNote: ImportComponents; Published: 23-Apr-2014; Publisher: UltiMachine; LastRevisionDate: 23-Apr-2014; VALUE: 0.06r
signal-integrity model Model Name (Model Description)
simulation model Model Name (Model Description)
footprint RN2010
pins: 1, 2

## DIODE
designator D?
DIODE; LastRevisionNote: ImportComponents; Published: 23-Apr-2014; Publisher: UltiMachine; LastRevisionDate: 23-Apr-2014
footprint DO-214AB
footprint SOD523
pins: A, C

## DLW21HN900SQ2L
designator L?
Common Mode Chokes Dual 90Ohm 100MHz 330mA 350mOhm DCR SMD
footprint DLW21HN900SQ2L
pins: 1 (power), 2 (power), 3 (power), 4 (power)

## EC11B15242AE
designator S?
SWITCH Rotary encoder w/ switch
footprint EC11B15242AE
footprint EC11+PEC09
pins: A (power), B (power), C (power), D SW (power), E SW (power)

## EEE-1VA101XP
designator C?  value 100uF
CAP ALUM 100UF 35V 20% SMD; Manufacture: Panasonic; Digikey Part #: PCE3951CT-ND; Price: $0.63; Mount Type: SMT Panasonic VS D Series; Status: Active; Height: 7.70mm; Datasheet: http://industrial.panasonic.com/www-cgi/jvcr13pz.cgi?E+PZ+3+ABA0002+EEE1VA101XP+7+WW; Manufacture Part #: EEE-1VA101XP
simulation model CAP (Capacitor)
signal-integrity model Cap Pol
footprint CAP-ELEC-063063077 (6.3x6.3x7.7mm)
pins: 1, 2
1 alternate drawing of the same symbol

## ERJ2GEJ105X
designator R?, comment 1M
RES 0402 1M 100mW 5%; ManufacturerPartNumber: ERJ2GEJ105X; LastRevisionNote: ImportComponents; Published: 23-Apr-2014; Publisher: UltiMachine; LastRevisionDate: 23-Apr-2014; VALUE: 1M
footprint R0402
signal-integrity model Model Name (Model Description)
simulation model Model Name (Model Description)
pins: 1, 2

## ERJ3EKF4701V
designator R?, comment 4.7K
RES 0603 4.7K 100mW 1%; ManufacturerPartNumber: ERJ3EKF4701V; LastRevisionNote: ImportComponents; Published: 23-Apr-2014; Publisher: UltiMachine; LastRevisionDate: 23-Apr-2014; VALUE: 4.7K
footprint R0603
signal-integrity model Model Name (Model Description)
simulation model Model Name (Model Description)
pins: 1, 2

## ERJ-3EKF1001V
designator R?, comment 1K
RES 0603 1K 100mW 1%; ManufacturerPartNumber: ERJ-3EKF1001V; LastRevisionNote: ImportComponents; Published: 23-Apr-2014; Publisher: UltiMachine; LastRevisionDate: 23-Apr-2014; VALUE: 1K
footprint R0603
signal-integrity model Model Name (Model Description)
simulation model Model Name (Model Description)
pins: 1, 2

## ERJ-3EKF1002V
designator R?, comment 10K
RES 0603 10K 100mW 1%; ManufacturerPartNumber: ERJ-3EKF1002V; LastRevisionNote: ImportComponents; Published: 23-Apr-2014; Publisher: UltiMachine; LastRevisionDate: 23-Apr-2014; VALUE: 10K
footprint R0603
signal-integrity model Model Name (Model Description)
simulation model Model Name (Model Description)
pins: 1, 2

## ESD9B3.3ST5G
designator D?
11.5 V 15 pF SMT Transient Voltage Suppressor - SOD-923
footprint SOD923-100X40-2N (SODFL, 2-Leads, Body 0.60x1.00mm, IPC Medium Density)
pins: A (power), C (power)

## F-55472
designator J?
footprint 10051922-3010ELF
pins: 1 CS1 (in), 2 RESET (in), 3 A0 (in), 4 WR (in), 5 RD (power), 6 D0 (power), 7 D1 (power), 8 D2 (power), 9 D3 (power), 10 D4 (power), 11 D5 (power), 12 D6/SCK (io), 13 D7/SDI (io), 14 VDD (power), 15 VSS (power), 16 VOUT (power), 17 C3+ (power), 18 C1- (power), 19 C1+ (power), 20 C2+ (power), 21 C2- (power), 22 V1 (power), 23 V2 (power), 24 V3 (power), 25 V4 (power), 26 V0 (power), 27 VR (power), 28 C86 (power), 29 P/S (power), 30 IRS (power)

## F/CM12P12MM
designator SG?
BUZZER; LastRevisionNote: ImportComponents; Published: 23-Apr-2014; Publisher: UltiMachine; LastRevisionDate: 23-Apr-2014
footprint BUZZER-12MM
pins: P$1 1, P$2 2

## FAN3229
designator U$?
LastRevisionNote: ImportComponents; Published: 23-Apr-2014; Publisher: UltiMachine; LastRevisionDate: 23-Apr-2014
footprint SOIC8
pins: 1 INA+, 2 INA-, 3 INB+, 4 INB-, 5 OUTB, 6 VDD, 7 OUTA, 8 GND

## FIDUCIAL
designator FID?
Fiducial; LastRevisionNote: ImportComponents; Published: 23-Apr-2014; Publisher: UltiMachine; LastRevisionDate: 23-Apr-2014
footprint FIDUCIAL-1X2
footprint FIDUCIAL-2x3-Panel

## FUSE
designator F?
LastRevisionNote: ImportComponents; Published: 23-Apr-2014; Publisher: UltiMachine; LastRevisionDate: 23-Apr-2014
footprint 3522-2
footprint F1210_M (Bournes PTC Fuse)
pins: 1, 2

## GCM155R71H223KA55D
designator C?, comment 22nF
CAP CER 0402 22nF ±10% 50V X7R; ManufacturerPartNumber: CC0402KRX7R8BB472; LastRevisionNote: ImportComponents; Published: 23-Apr-2014; Publisher: UltiMachine; LastRevisionDate: 23-Apr-2014; VALUE: 22nF
footprint C0402
signal-integrity model Model Name (Model Description)
simulation model Model Name (Model Description)
pins: 1, 2

## GRM21BR71H105KA12L
designator C?, comment 1uF
CAP CER 0805 1uF 50V 10% X7R; ManufacturerPartNumber: GRM21BR71H105KA12L; LastRevisionNote: ImportComponents; Published: 23-Apr-2014; Publisher: UltiMachine; LastRevisionDate: 23-Apr-2014; VALUE: 1uF
footprint C0805
signal-integrity model Model Name (Model Description)
simulation model Model Name (Model Description)
pins: 1, 2

## GRM31CR71H475KA12L
designator C?, comment 4.7uF
CAP CER 1206 4.7uF 50V 10% X7R; ManufacturerPartNumber: GRM31CR71H475KA12L; LastRevisionNote: ImportComponents; Published: 23-Apr-2014; Publisher: UltiMachine; LastRevisionDate: 23-Apr-2014; VALUE: 4.7uF
signal-integrity model Model Name (Model Description)
simulation model Model Name (Model Description)
footprint C1206
pins: 1, 2

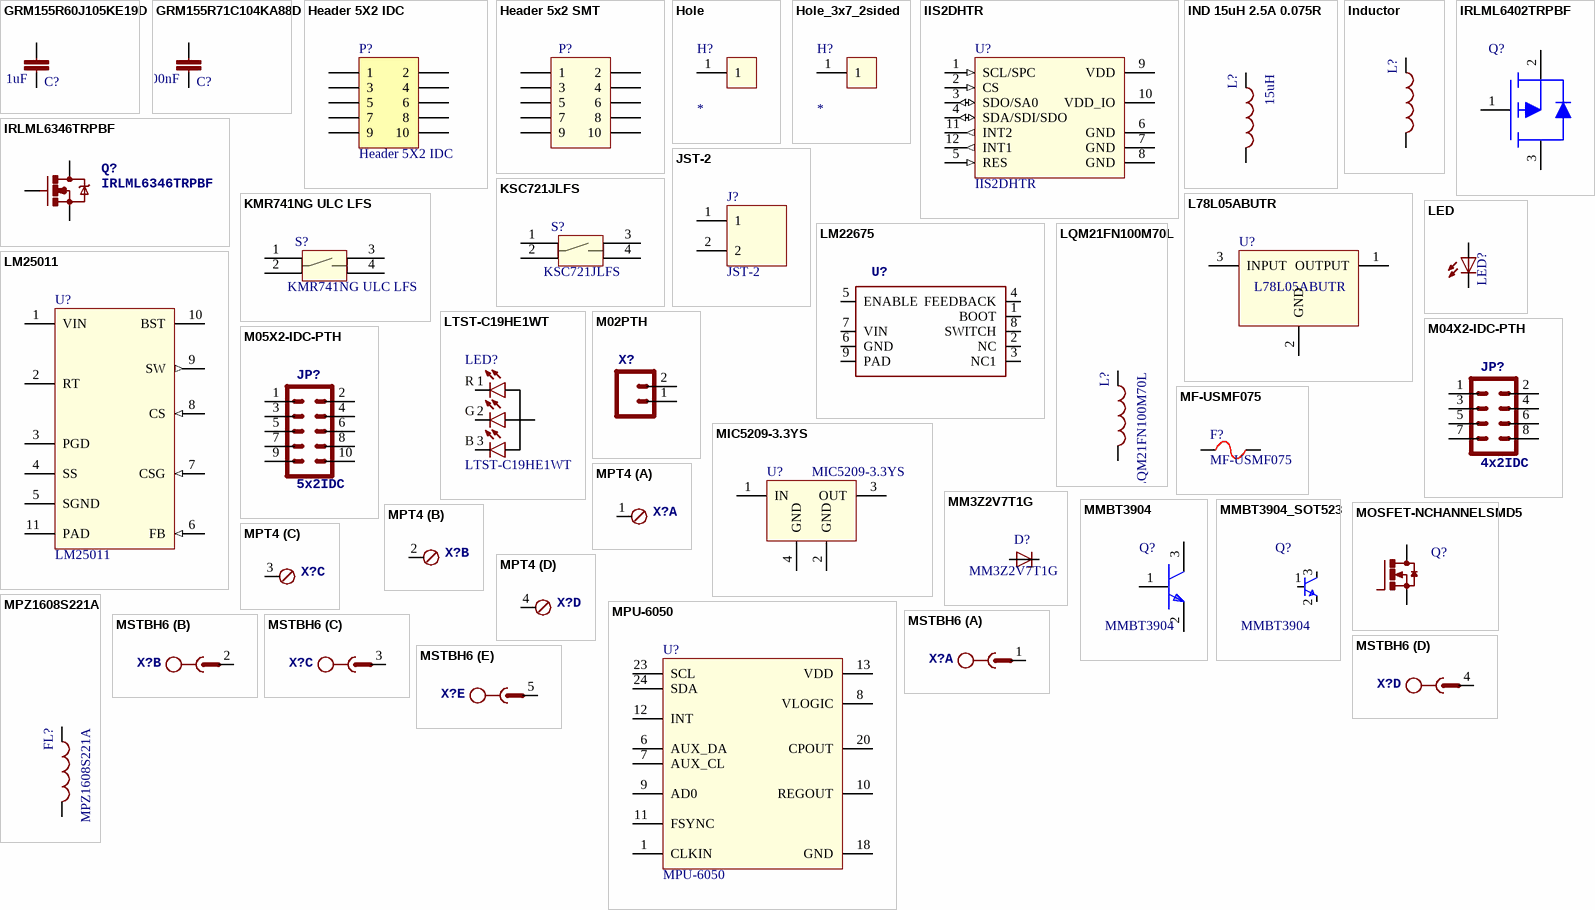
[diagram p3: symbols GRM155R60J105KE19D to MSTBH6]

## GRM155R60J105KE19D
designator C?, comment 1uF
CAP CER 0402 1uF 6.3V 10% X5R; ManufacturerPartNumber: GRM155R60J105KE19D; LastRevisionNote: ImportComponents; Published: 23-Apr-2014; Publisher: UltiMachine; LastRevisionDate: 23-Apr-2014; VALUE: 1uF
footprint C0402
signal-integrity model Model Name (Model Description)
simulation model Model Name (Model Description)
pins: 1, 2

## GRM155R71C104KA88D
designator C?, comment 100nF
CAP CER 0402 100nF 16V 10% X7R; ManufacturerPartNumber: GRM155R71C104KA88D; LastRevisionNote: ImportComponents; Published: 23-Apr-2014; Publisher: UltiMachine; LastRevisionDate: 23-Apr-2014; VALUE: 100nF
footprint C0402
signal-integrity model Model Name (Model Description)
simulation model Model Name (Model Description)
pins: 1, 2

## Header 5X2 IDC
designator P?
Header, 5-Pin, Dual row; LatestRevisionDate: 17-Jul-2002; LatestRevisionNote: Re-released for DXP Platform.; Publisher: Altium Limited
footprint HDR2X5 IDC (Connector; Header; 5x2 Position)
signal-integrity model Connector
pins: 1, 2, 3, 4, 5, 6, 7, 8, 9, 10

## Header 5x2 SMT
designator P?  (value not drawn)
5x2 SMT 2.54mm
footprint HDR5x2-2.54mm (Header 5x2 2.54mm)
pins: 1 (power), 2 (power), 3 (power), 4 (power), 5 (power), 6 (power), 7 (power), 8 (power), 9 (power), 10 (power)

## Hole
designator H?  (no BOM)
footprint Wave_hole_3x7-singleSided
pins: 1 (power)

## Hole_3x7_2sided
designator H?  (no BOM)
footprint Wave_hole_3x7-2sided
pins: 1 (power)

## IIS2DHTR
designator U?
3-axis accelerometer with digital output
footprint LGA12C50P4X4_200X200X100 (LGA, 12-Leads, Body 2.00x2.00mmx1.00mm, Pitch 0.50mm)
pins: 1 SCL/SPC (in), 2 CS (in), 3 SDO/SA0 (io), 4 SDA/SDI/SDO (io), 5 RES (in), 6 GND (power), 7 GND (power), 8 GND (power), 9 VDD (power), 10 VDD_IO (power), 11 INT2 (out), 12 INT1 (out)

## IND 15uH 2.5A 0.075R
designator L?, comment 15uH
FIXED IND 15UH 2.5A 98 MOHM SMD; Manufacturer: TDK; ManufacturerPartNumber: VLS6045EX-150M; LastRevisionNote: ImportComponents; Published: 23-Apr-2014; Publisher: UltiMachine; LastRevisionDate: 23-Apr-2014; ManufacturerPartNumber2: XAL5050-153MEB; Value: 15uH; Manufacturer2: Coilcraft
footprint XAL50xx_VLS6045 (Precision Wire Wound Inductor, 2-Leads, Body 5.28x5.48mm, IPC High Density)
pins: 1, 2

## Inductor
designator L?
IND; LastRevisionNote: ImportComponents; Published: 23-Apr-2014; Publisher: UltiMachine; LastRevisionDate: 23-Apr-2014
footprint C0805
footprint NR8040
footprint L1806 (Chip Inductor, 2-Leads, Body 4.50x1.60mm, IPC Medium Density)
footprint XAL50xx-153 (Precision Wire Wound Inductor, 2-Leads, Body 5.28x5.48mm, IPC High Density)
pins: 1, 2

## IRLML6346TRPBF
designator Q?
Mosfet N-Channel 30V 3.4A 63mOhm; LastRevisionNote: ImportComponents; Published: 23-Apr-2014; Publisher: UltiMachine; LastRevisionDate: 23-Apr-2014; ManufacturerPartNumber: IRLML6346TRPBF
footprint SOT23-3
pins: 1 G, 2 S, 3 D

## IRLML6402TRPBF
designator Q?  (value not drawn)
MOSFET P-CH 20V 3.7A SOT-23
footprint SOT23-3
pins: 1 G (power), 2 S (power), 3 D (power)

## JST-2
designator J?
footprint JST-2
pins: 1 (power), 2 (power)

## KMR741NG ULC LFS
designator S?
SWITCH TACTILE SPST-NO 0.05A 12V
footprint KMR 6 Series (Tactile Switch SPST-NO Top Actuated Surface Mount)
pins: 1 (power), 2 (power), 3 (power), 4 (power)

## KSC721JLFS
designator S?
Switch SPST 1.7 N / 1.8 N J Bend Surface Mount Tactile Switch
footprint KSC721JLFS
pins: 1 (power), 2 (power), 3 (power), 4 (power)

## L78L05ABUTR
designator U?
IC REG LDO 5V 0.1A SOT89-3
footprint SOT89-150P347X160-3L (SOT89, 3-Leads, Body 4.50x2.48mm, Pitch 1.50mm, Lead Span 3.5mm, IPC High Density)
pins: 1 OUTPUT (power), 2 GND (power), 3 INPUT (power)

## LED
designator LED?
LED; LastRevisionNote: ImportComponents; Published: 23-Apr-2014; Publisher: UltiMachine; LastRevisionDate: 23-Apr-2014
footprint CHIP-LED0805
pins: A, C

## LM22675
designator U?
LastRevisionNote: ImportComponents; Published: 23-Apr-2014; Publisher: UltiMachine; LastRevisionDate: 23-Apr-2014
footprint SOIC127P600X170-9N
pins: 1 BOOT, 2 NC, 3 NC1, 4 FEEDBACK, 5 ENABLE, 6 GND, 7 VIN (power), 8 SWITCH, 9 PAD

## LM25011
designator U?
REG BUCK; Value: LM25011
footprint VSSOP10 (TSSOP, 10-Leads, Body 3.15x3.00mm, Pitch 0.50mm, Thermal Pad 2.05.2x1.50.2mm, IPC High Density)
pins: 1 VIN (power), 2 RT (power), 3 PGD (power), 4 SS (power), 5 SGND (power), 6 FB (in), 7 CSG (in), 8 CS (in), 9 SW (out), 10 BST (power), 11 PAD (power)

## LQM21FN100M70L
designator L?
IND 0805 10uH 100mA 780 mOhm 20%; ManufacturerPartNumber: CBC2012T100M; LastRevisionNote: ImportComponents; Published: 23-Apr-2014; Publisher: UltiMachine; LastRevisionDate: 23-Apr-2014; Value: LQM21FN100M70L
footprint C0805
pins: 1, 2

## LTST-C19HE1WT
designator LED?
LED RGB DIFFUSED 0606 SMD
footprint LTST-C19HE1WT (LED RGB DIFFUSED 0606 SMD)
pins: 1, 2, 3, 4
text: R; G; B

## M02PTH
designator X?
Connector 2x1 2.54mm PTH; LastRevisionNote: ImportComponents; Published: 23-Apr-2014; Publisher: UltiMachine; LastRevisionDate: 23-Apr-2014
footprint 1X02
pins: 1, 2

## M04X2-IDC-PTH
designator JP?, comment 4x2IDC
Connector 4x2 2.54mm PTH; LastRevisionNote: ImportComponents; Published: 23-Apr-2014; Publisher: UltiMachine; LastRevisionDate: 23-Apr-2014
footprint 2X4-SHROUDED
pins: 1, 2, 3, 4, 5, 6, 7, 8

## M05X2-IDC-PTH
designator JP?, comment 5x2IDC
Connector 5x2 2.54mm PTH; LastRevisionNote: ImportComponents; Published: 23-Apr-2014; Publisher: UltiMachine; LastRevisionDate: 23-Apr-2014
footprint 2X5-SHROUDED
pins: 1, 2, 3, 4, 5, 6, 7, 8, 9, 10

## MF-USMF075
designator F?
FUSE 1210 PTC 750mA 6V; LastRevisionNote: ImportComponents; Published: 23-Apr-2014; Publisher: UltiMachine; LastRevisionDate: 23-Apr-2014; ManufacturerPartNumber: MF-USMF075
footprint 3522-2
footprint F1210_M (Bournes PTC Fuse)
pins: 1, 2

## MIC5209-3.3YS
designator U?
footprint SOT230P700X190-4N (SOT223, 4-Leads, Body 6.50x7.00mm (avg), Pitch 2.30mm, IPC Medium Density)
pins: 1 IN (power), 2 GND (power), 3 OUT (power), 4 GND (power)

## MM3Z2V7T1G
designator D?
Z-Diode 2.7V 10mA 200mW; LastRevisionNote: ImportComponents; Published: 23-Apr-2014; Publisher: UltiMachine; LastRevisionDate: 23-Apr-2014
footprint QFN24_050050 (MPU-6050)
pins: A, C

## MMBT3904
designator Q?
footprint SOT23-3
pins: 1 B (power), 2 E (power), 3 C (power)

## MMBT3904_SOT523
designator Q?, comment MMBT3904
TRANS NPN 60V 0.2A SOT523
footprint SOT523 SMALL
pins: 1 B (power), 2 E (power), 3 C (power)

## MOSFET-NCHANNELSMD5
designator Q?
Mosfet N-channel 5pad; LastRevisionNote: ImportComponents; Published: 23-Apr-2014; Publisher: UltiMachine; LastRevisionDate: 23-Apr-2014
footprint SOT669
pins: 1 S, 2 S, 3 S, 4 G, MB D

## MPT4
designator X?
4pos Latching 2.54mm; LastRevisionNote: ImportComponents; Published: 23-Apr-2014; Publisher: UltiMachine; LastRevisionDate: 23-Apr-2014
footprint 4POL254
footprint 4POL254 noPol
part A pins: 1
part B pins: 2 1
part C pins: 3 1
part D pins: 4 1

## MPU-6050
designator U?
GYRO/ACCELEROMETER 6AXIS 24QFN
footprint QFN24_050050 (MPU-6050)
pins: 1 CLKIN (power), 6 AUX_DA (power), 7 AUX_CL (power), 8 VLOGIC (power), 9 AD0 (power), 10 REGOUT (power), 11 FSYNC (power), 12 INT (power), 13 VDD (power), 18 GND (power), 20 CPOUT (power), 23 SCL (power), 24 SDA (power)

## MPZ1608S221A
designator FL?
Ferrite; LastRevisionNote: ImportComponents; Published: 23-Apr-2014; Publisher: UltiMachine; LastRevisionDate: 23-Apr-2014; Value: MPZ1608S221A
footprint C0603
pins: 1, 2

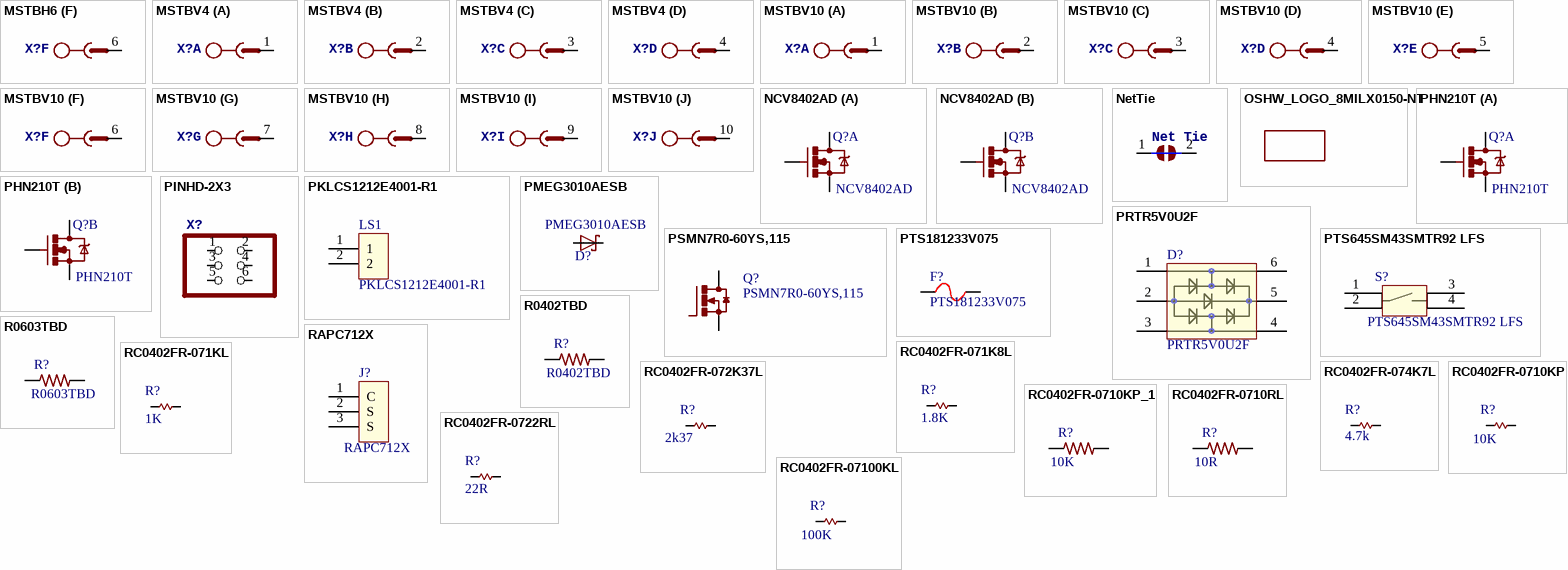
[diagram p4: symbols MSTBH6 to RC0402FR-07100KL]

## MSTBH6
designator X?  (value not drawn)
PHOENIX; LastRevisionNote: ImportComponents; Published: 23-Apr-2014; Publisher: UltiMachine; LastRevisionDate: 23-Apr-2014
footprint MSTBH6 (Pluggable terminal block-5.08mm pitch - Horizontal)
part A pins: 1
part B pins: 2 1
part C pins: 3 1
part D pins: 4 1
part E pins: 5
part F pins: 6

## MSTBV4
designator X?  (value not drawn)
PHOENIX; LastRevisionNote: ImportComponents; Published: 23-Apr-2014; Publisher: UltiMachine; LastRevisionDate: 23-Apr-2014
footprint MSTBV4
part A pins: 1
part B pins: 2 1
part C pins: 3 1
part D pins: 4 1

## MSTBV10
designator X?  (value not drawn)
PHOENIX; LastRevisionNote: ImportComponents; Published: 23-Apr-2014; Publisher: UltiMachine; LastRevisionDate: 23-Apr-2014
footprint MSTBV10
part A pins: 1
part B pins: 2 1
part C pins: 3 1
part D pins: 4 1
part E pins: 5 1
part F pins: 6 1
part G pins: 7 1
part H pins: 8 1
part I pins: 9 1
part J pins: 10 1

## NCV8402AD
designator Q?
footprint NCV8402AD-SOIC8
part A pins: 1 S, 2 G, 7 D
part B pins: 3 S, 4 G, 5 D

## NetTie
designator Net Tie  (net tie, no BOM)
Net Tie; LastRevisionNote: ImportComponents; Published: 23-Apr-2014; Publisher: UltiMachine; LastRevisionDate: 23-Apr-2014
footprint Net Tie
pins: 1, 2

## OSHW_LOGO_8MILX0150-NT
designator LOGO?
LastRevisionNote: ImportComponents; Published: 23-Apr-2014; Publisher: UltiMachine; LastRevisionDate: 23-Apr-2014
footprint OSHW_8X150_NOTEXT

## PHN210T
designator Q?
Dual N-channel TrenchMOS intermediate level FET
footprint SOIC8-dual-drain
part A pins: 1 S, 2 G, 7 D
part B pins: 3 S, 4 G, 5 D

## PINHD-2X3
designator X?
PIN HEADER; LastRevisionNote: ImportComponents; Published: 23-Apr-2014; Publisher: UltiMachine; LastRevisionDate: 23-Apr-2014
footprint 2X03
pins: 1, 2, 3, 4, 5, 6

## PKLCS1212E4001-R1
designator LS1
footprint PKLCS1212E4001-R1
pins: 1 (power), 2 (power)

## PMEG3010AESB
designator D?
30 V, 1 A low VF MEGA Schottky barrier rectifier; LastRevisionNote: ImportComponents; Published: 23-Apr-2014; Publisher: UltiMachine; LastRevisionDate: 23-Apr-2014
footprint SOD993-DFN3127P600-8N (DSN1006-2 (SOD993))
pins: A, C

## PRTR5V0U2F
designator D?
Rail-to-rail ESD protection devices
footprint SOT886
pins: 1 (power), 2 (power), 3 (power), 4 (power), 5 (power), 6 (power)

## PSMN7R0-60YS,115
designator Q?
Mosfet N-channel 60V 356A 117W 9.3mOhms; LastRevisionNote: ImportComponents; Published: 23-Apr-2014; Publisher: UltiMachine; LastRevisionDate: 23-Apr-2014; ManufacturerPartNumber: PSMN7R0-60YS,115
footprint SOT669
pins: 1 S, 2 S, 3 S, 4 G, MB D

## PTS645SM43SMTR92 LFS
designator S?
SWITCH TACTILE SPST-NO 0.05A 12V
footprint PTS645SM43SMTR92 LFS
pins: 1 (power), 2 (power), 3 (power), 4 (power)

## PTS181233V075
designator F?
FUSE 1812 PTC 750mA 6V; LastRevisionNote: ImportComponents; Published: 23-Apr-2014; Publisher: UltiMachine; LastRevisionDate: 23-Apr-2014; ManufacturerPartNumber: PTS181233V075
footprint PTS1812 Fuse
pins: 1, 2

## R0402TBD
designator R?
Resistor; LastRevisionNote: ImportComponents; Published: 23-Apr-2014; Publisher: UltiMachine; LastRevisionDate: 23-Apr-2014; VALUE: R0402TBD
footprint R0402
signal-integrity model Model Name (Model Description)
simulation model Model Name (Model Description)
pins: 1, 2

## R0603TBD
designator R?
Resistor; LastRevisionNote: ImportComponents; Published: 23-Apr-2014; Publisher: UltiMachine; LastRevisionDate: 23-Apr-2014; VALUE: R0603TBD
footprint R0603
signal-integrity model Model Name (Model Description)
simulation model Model Name (Model Description)
pins: 1, 2

## RAPC712X
designator J?
footprint RAPC712X
pins: 1 C (power), 2 S (power), 3 S (power)

## RC0402FR-071K8L
designator R?, comment 1.8K
RES SMD 1.8K OHM 1% 1/16W 0402; Manufacturer: YAGEO; ManufacturerPartNumber: RC0402FR-071K8L; LastRevisionNote: ImportComponents; Published: 23-Apr-2014; Publisher: UltiMachine; LastRevisionDate: 23-Apr-2014; VALUE: 1.8K
footprint R0402
pins: 1, 2

## RC0402FR-071KL
designator R?, comment 1K
RES SMD 1K OHM 1% 1/16W 0402; Manufacturer: YAGEO; ManufacturerPartNumber: RC0402FR-071KL; LastRevisionNote: ImportComponents; Published: 23-Apr-2014; Publisher: UltiMachine; LastRevisionDate: 23-Apr-2014; VALUE: 1K
footprint R0402
pins: 1, 2

## RC0402FR-072K37L
designator R?, comment 2k37
RES SMD 2.37K OHM 1% 1/16W 0402; Manufacturer: Yageo; ManufacturerPartNumber: RC0402FR-072K37L; LastRevisionNote: ImportComponents; Published: 23-Apr-2014; Publisher: UltiMachine; LastRevisionDate: 23-Apr-2014; VALUE: 2k37
footprint R0402
pins: 1, 2

## RC0402FR-074K7L
designator R?, comment 4.7k
RES SMD 4.7K OHM 1% 1/16W 0402; Manufacturer: YAGEO; ManufacturerPartNumber: RC0402FR-074K7L; LastRevisionNote: ImportComponents; Published: 23-Apr-2014; Publisher: UltiMachine; LastRevisionDate: 23-Apr-2014; VALUE: 4.7k
footprint R0402
pins: 1, 2

## RC0402FR-0710KP
designator R?, comment 10K
RES SMD 10K OHM 1% 1/16W 0402; ManufacturerPartNumber: RC0402FR-0710KP; LastRevisionNote: ImportComponents; Published: 23-Apr-2014; Publisher: UltiMachine; LastRevisionDate: 23-Apr-2014; VALUE: 10K
footprint R0402
signal-integrity model Model Name (Model Description)
simulation model Model Name (Model Description)
pins: 1, 2

## RC0402FR-0710KP_1
designator R?, comment 10K
RES SMD 10K OHM 1% 1/16W 0402; ManufacturerPartNumber: RC0402FR-0710KP; LastRevisionNote: ImportComponents; Published: 23-Apr-2014; Publisher: UltiMachine; LastRevisionDate: 23-Apr-2014; VALUE: 10K
footprint R0402
signal-integrity model Model Name (Model Description)
simulation model Model Name (Model Description)
pins: 1, 2

## RC0402FR-0710RL
designator R?, comment 10R
RES SMD 10 OHM 1% 1/16W 0402; ManufacturerPartNumber: RC0402FR-0710KP; LastRevisionNote: ImportComponents; Published: 23-Apr-2014; Publisher: UltiMachine; LastRevisionDate: 23-Apr-2014; VALUE: 10R
footprint R0402
signal-integrity model Model Name (Model Description)
simulation model Model Name (Model Description)
pins: 1, 2

## RC0402FR-0722RL
designator R?, comment 22R
RES SMD 22 OHM 1% 1/16W 0402; Manufacturer: YAGEO; ManufacturerPartNumber: RC0402FR-0722RL; LastRevisionNote: ImportComponents; Published: 23-Apr-2014; Publisher: UltiMachine; LastRevisionDate: 23-Apr-2014; VALUE: 22R
footprint R0402
pins: 1, 2

## RC0402FR-07100KL
designator R?, comment 100K
RES 100K OHM 1% 1/16W 0402; LastRevisionNote: ImportComponents; Published: 23-Apr-2014; Publisher: UltiMachine; LastRevisionDate: 23-Apr-2014; VALUE: 100K
footprint R0402
signal-integrity model Model Name (Model Description)
simulation model Model Name (Model Description)
pins: 1, 2

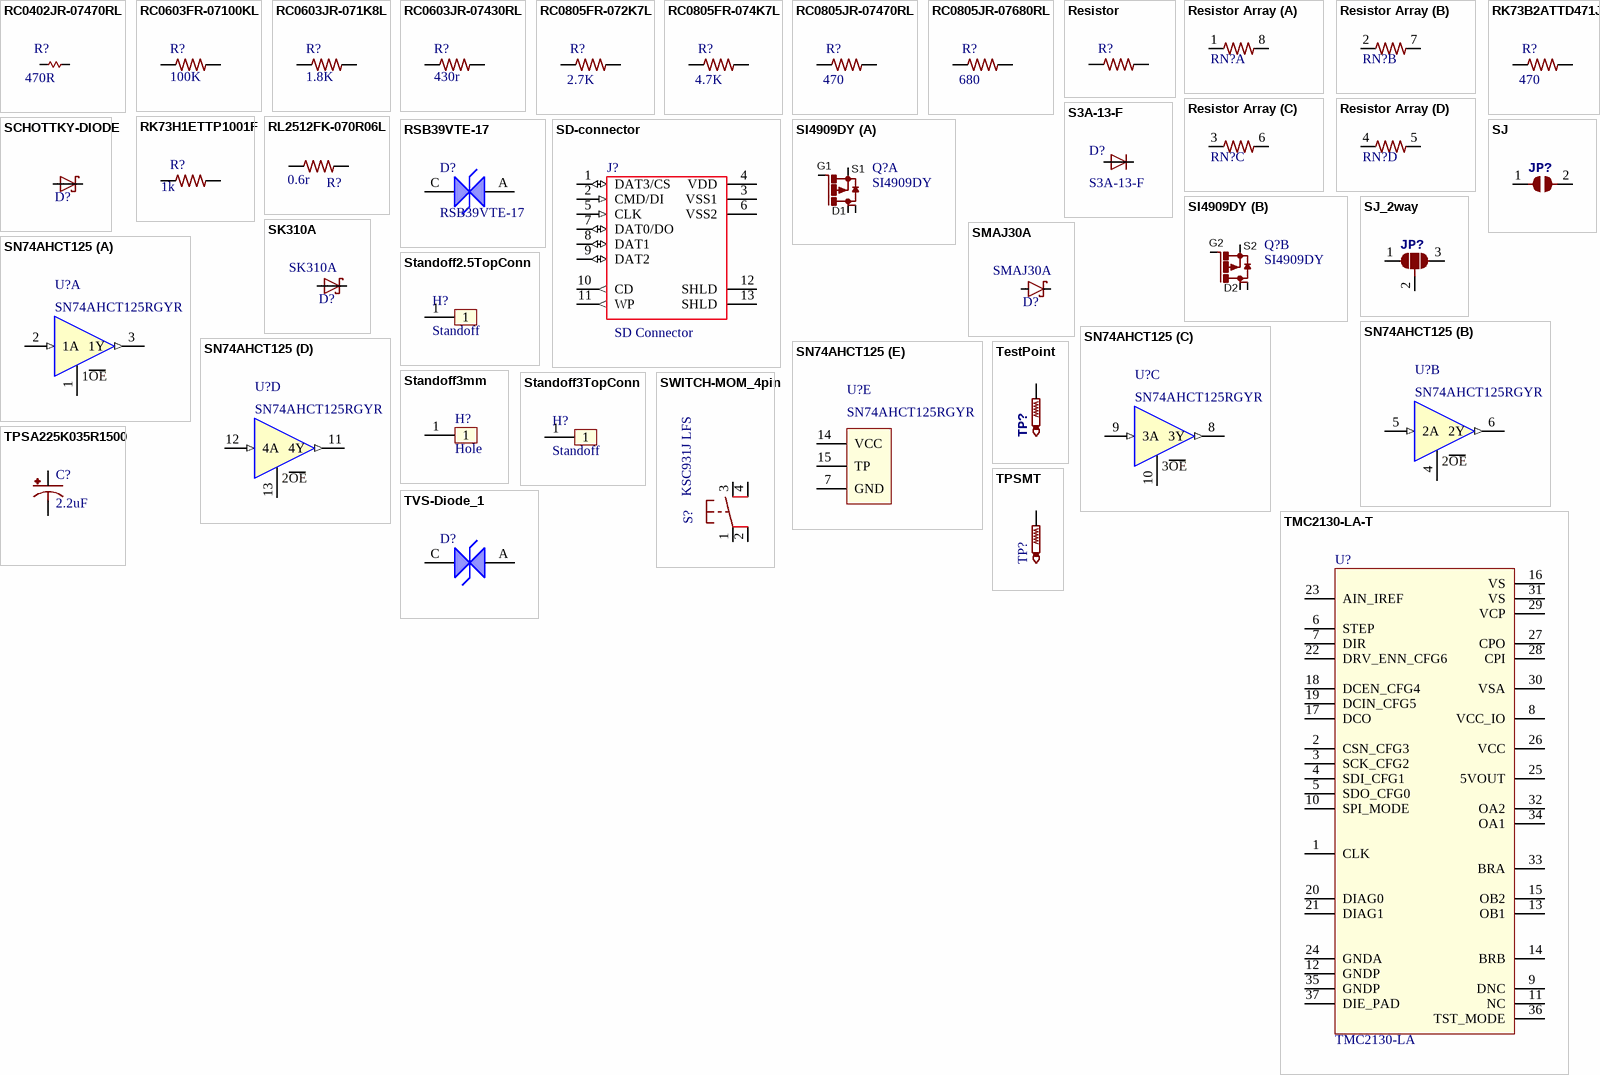
[diagram p5: symbols RC0402JR-07470RL to TVS-Diode_1]

## RC0402JR-07470RL
designator R?, comment 470R
RES SMD 470 OHM 5% 1/16W 0402; Manufacturer: YAGEO; ManufacturerPartNumber: RC0402JR-07470RL; LastRevisionNote: ImportComponents; Published: 23-Apr-2014; Publisher: UltiMachine; LastRevisionDate: 23-Apr-2014; VALUE: 470R
footprint R0402
pins: 1, 2

## RC0603FR-07100KL
designator R?, comment 100K
RES 100K OHM 1/10W 1% 0603 SMD; ManufacturerPartNumber: RC0603FR-07100KL; LastRevisionNote: ImportComponents; Published: 23-Apr-2014; Publisher: UltiMachine; LastRevisionDate: 23-Apr-2014; VALUE: 100K
footprint R0603
signal-integrity model Model Name (Model Description)
simulation model Model Name (Model Description)
pins: 1, 2

## RC0603JR-071K8L
designator R?, comment 1.8K
RES 0603 1.8K 100mW 5%; ManufacturerPartNumber: RC0603JR-071K8L; LastRevisionNote: ImportComponents; Published: 23-Apr-2014; Publisher: UltiMachine; LastRevisionDate: 23-Apr-2014; VALUE: 1.8K
footprint R0603
signal-integrity model Model Name (Model Description)
simulation model Model Name (Model Description)
pins: 1, 2

## RC0603JR-07430RL
designator R?, comment 430r
RES 0603 0.1 W 430 Ohms 5% ±100 ppm/°C SMT; ManufacturerPartNumber: RC0603JR-07430RL; LastRevisionNote: ImportComponents; Published: 23-Apr-2014; Publisher: UltiMachine; LastRevisionDate: 23-Apr-2014; VALUE: 430r
footprint R0603
signal-integrity model Model Name (Model Description)
simulation model Model Name (Model Description)
pins: 1, 2

## RC0805FR-072K7L
designator R?, comment 2.7K
RES SMD 2.7K OHM 5% 1/8W 0805; LastRevisionNote: ImportComponents; Published: 23-Apr-2014; Publisher: UltiMachine; LastRevisionDate: 23-Apr-2014; VALUE: 2.7K
signal-integrity model Model Name (Model Description)
simulation model Model Name (Model Description)
footprint R0805
pins: 1, 2

## RC0805FR-074K7L
designator R?, comment 4.7K
RES SMD 4.7K OHM 5% 1/8W 0805; LastRevisionNote: ImportComponents; Published: 23-Apr-2014; Publisher: UltiMachine; LastRevisionDate: 23-Apr-2014; VALUE: 4.7K
signal-integrity model Model Name (Model Description)
simulation model Model Name (Model Description)
footprint R0805
pins: 1, 2

## RC0805JR-07470RL
designator R?, comment 470
RES SMD 470 OHM 5% 1/8W 0805; LastRevisionNote: ImportComponents; Published: 23-Apr-2014; Publisher: UltiMachine; LastRevisionDate: 23-Apr-2014; VALUE: 470
signal-integrity model Model Name (Model Description)
simulation model Model Name (Model Description)
footprint R0805
pins: 1, 2

## RC0805JR-07680RL
designator R?, comment 680
RES SMD 680 OHM 5% 1/8W 0805; LastRevisionNote: ImportComponents; Published: 23-Apr-2014; Publisher: UltiMachine; LastRevisionDate: 23-Apr-2014; VALUE: 680
signal-integrity model Model Name (Model Description)
simulation model Model Name (Model Description)
footprint R0805
pins: 1, 2

## Resistor
designator R?
Resistor; LastRevisionNote: ImportComponents; Published: 23-Apr-2014; Publisher: UltiMachine; LastRevisionDate: 23-Apr-2014
footprint R0402
footprint R0603
footprint R1206
signal-integrity model Model Name (Model Description)
simulation model Model Name (Model Description)
footprint RN2010
pins: 1, 2

## Resistor Array
designator RN?
Resistor Array 4; Manufacturer: Bourns; ManufacturerPartNumber: CAY16-103J4LF; LastRevisionNote: ImportComponents; ComponentLink1URL: http://www.bourns.com/data/global/pdfs/CATCAY.pdf; ComponentLink1Description: Datasheet for CAY16; Published: 23-Apr-2014; Publisher: UltiMachine; LastRevisionDate: 23-Apr-2014
footprint CAY16
part A pins: 1, 8 2
part B pins: 2 1, 7 2
part C pins: 3 1, 6 2
part D pins: 4 1, 5 2

## RK73B2ATTD471J
designator R?, comment 470
RES SMD 470 OHM 5% 1/8W 0805; LastRevisionNote: ImportComponents; Published: 23-Apr-2014; Publisher: UltiMachine; LastRevisionDate: 23-Apr-2014; VALUE: 470
signal-integrity model Model Name (Model Description)
simulation model Model Name (Model Description)
footprint R0805
pins: 1, 2

## RK73H1ETTP1001F
designator R?, comment 1k
RES 0402 1k 63mW 1%; LastRevisionNote: ImportComponents; Published: 23-Apr-2014; Publisher: UltiMachine; LastRevisionDate: 23-Apr-2014; VALUE: 1k
footprint R0402
signal-integrity model Model Name (Model Description)
simulation model Model Name (Model Description)
pins: 1, 2

## RL2512FK-070R06L
designator R?, comment 0.6r
RES 0.06 OHM 1W 1% 2512 SMD; ManufacturerPartNumber: RL2512FK-070R06L; LastRevisionNote: ImportComponents; Published: 23-Apr-2014; Publisher: UltiMachine; LastRevisionDate: 23-Apr-2014; VALUE: 0.6r
signal-integrity model Model Name (Model Description)
simulation model Model Name (Model Description)
footprint 2512R-0.55 (2512 Resistor 6.35mm x 3.2mm x 0.55mm)
pins: 1, 2

## RSB39VTE-17
designator D?
DIODE TVS
footprint SOD323-R
pins: A (power), C (power)

## S3A-13-F
designator D?
DIODE DO-214AB; LastRevisionNote: ImportComponents; Published: 23-Apr-2014; Publisher: UltiMachine; LastRevisionDate: 23-Apr-2014; Value: S3A-13-F
footprint DO-214AB
pins: A, C

## SCHOTTKY-DIODE
designator D?
Schottky Diode; LastRevisionNote: ImportComponents; Published: 23-Apr-2014; Publisher: UltiMachine; LastRevisionDate: 23-Apr-2014
footprint SMA-SM
pins: A, C